# Altium integrated library BAS40Q-7-F.IntLib: 1 symbol
Pins are listed as number, name and electrical type; pins without a type are passive.

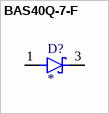
[diagram p0: symbol BAS40Q-7-F]

## BAS40Q-7-F
designator D?
Diode Schottky 40V 200mA (DC) Surface Mount SOT-23; MP: BAS40Q-7-F; Package: None; Price: None; Value: *; Availability: Unavailable
footprint SOT91P240X110-3N
pins: 1 A, 3 K